# Altium footprint library Led SMD.PcbLib: 2 footprints
Each footprint in its own frame and in the unit in brackets; x right, y up, seen from the top. Pads: shape width x height; smd on the part's side, far side on the other; paste and mask are expansions set on the pad; w line width, h text height; cw(c..) or ccw(c..) is an arc to the next point about the centre after c.
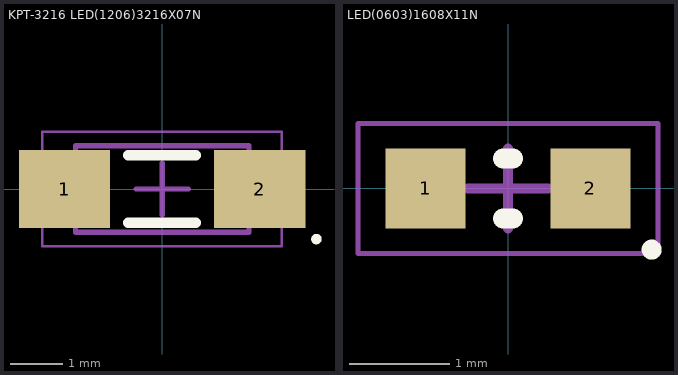
[diagram p0: the footprints below, top view; thin cyan lines are the x and y axes]

## KPT-3216 LED(1206)3216X07N [mm] "Chip Diode, 2-Leads, Body 3,25x1,60mm, IPC Medium Density"
height 0.7
pads (2):
  rect 1.75x1.5 smd: 1(-1.875,0) 2(1.875,0)
Top Overlay:
  circle w0.1: c2.962,-0.962 r0.05
  lines w0.2: -0.65,-0.65 0.65,-0.65 ; -0.65,0.65 0.65,0.65
Mechanical 13:
  lines w0.1: -1.665,-0.83 1.665,-0.83 1.665,0.83 -1.665,0.83 -1.665,-0.83
Mechanical 15:
  lines w0.05: -2.3,-1.1 2.3,-1.1 2.3,1.1 -2.3,1.1 -2.3,-1.1
  lines w0.1: -0.5,0 0.5,0 ; 0,-0.5 0,0.5
3D body: height 0.58, standoff 0, extent -1.6,-0.8 1.6,0.8

## LED(0603)1608X11N [mm] "Chip Led, 2-Leads, Body 1,60x0,80mm, IPC Medium Density"
height 1.1
pads (2):
  rect 0.8x0.8 smd: 1(-0.825,0) 2(0.825,0)
Top Overlay:
  circle w0.1: c1.437,-0.612 r0.05
  lines w0.2: -0.05,-0.3 0.05,-0.3 ; -0.05,0.3 0.05,0.3
Mechanical 15:
  lines w0.05: -1.5,-0.65 -1.5,0.65 1.5,0.65 1.5,-0.65 -1.5,-0.65
  lines w0.1: -0.4,0 0.4,0 ; 0,-0.4 0,0.4
3D body: height 0.83, standoff 0, extent -0.835,-0.4 0.825,0.4